# Altium schematic symbol library AC0603FR-07124KL.SchLib: 1 symbol
Pins are listed as number, name and electrical type; pins without a type are passive.

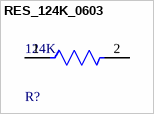
[diagram p0: symbol RES_124K_0603]

## RES_124K_0603
designator R?, comment 124K
-55℃~+155℃ 100mW 124kΩ 75V Thick Film Resistor ±1% ±100ppm/℃ 0603 Chip Resistor - Surface Mount ROHS; Voltage Rating: 50V; Temperature Coefficient: 100ppm/°C; Resistance: 124kR; Height: 0.022inch; Length: 0.063inch; Case Code (Imperial): 0603; Resistor Type: Thick Film; Case/Package: 0603; Number of Terminations: 2; Width: 0.8mm; Features: Moisture Resistant; Tolerance: 1%; Case Code (Metric): 1608; Max Operating Temperature: 155°C; Min Operating Temperature: -55°C; Series: AC; Max Power Dissipation: 100mW; Termination: SMD/SMT; Power Rating: 100mW; Packaging: Tape and Reel
footprint FP-AC0603-IPC_C
footprint FP-AC0603-IPC_B
footprint FP-AC0603-MFG
footprint FP-AC0603-IPC_A
pins: 1, 2